# Altium footprint library 1554-MM.PcbLib: 16 footprints
Each footprint in its own frame and in the unit in brackets; x right, y up, seen from the top. Pads: shape width x height; smd on the part's side, far side on the other; paste and mask are expansions set on the pad; w line width, h text height; cw(c..) or ccw(c..) is an arc to the next point about the centre after c.
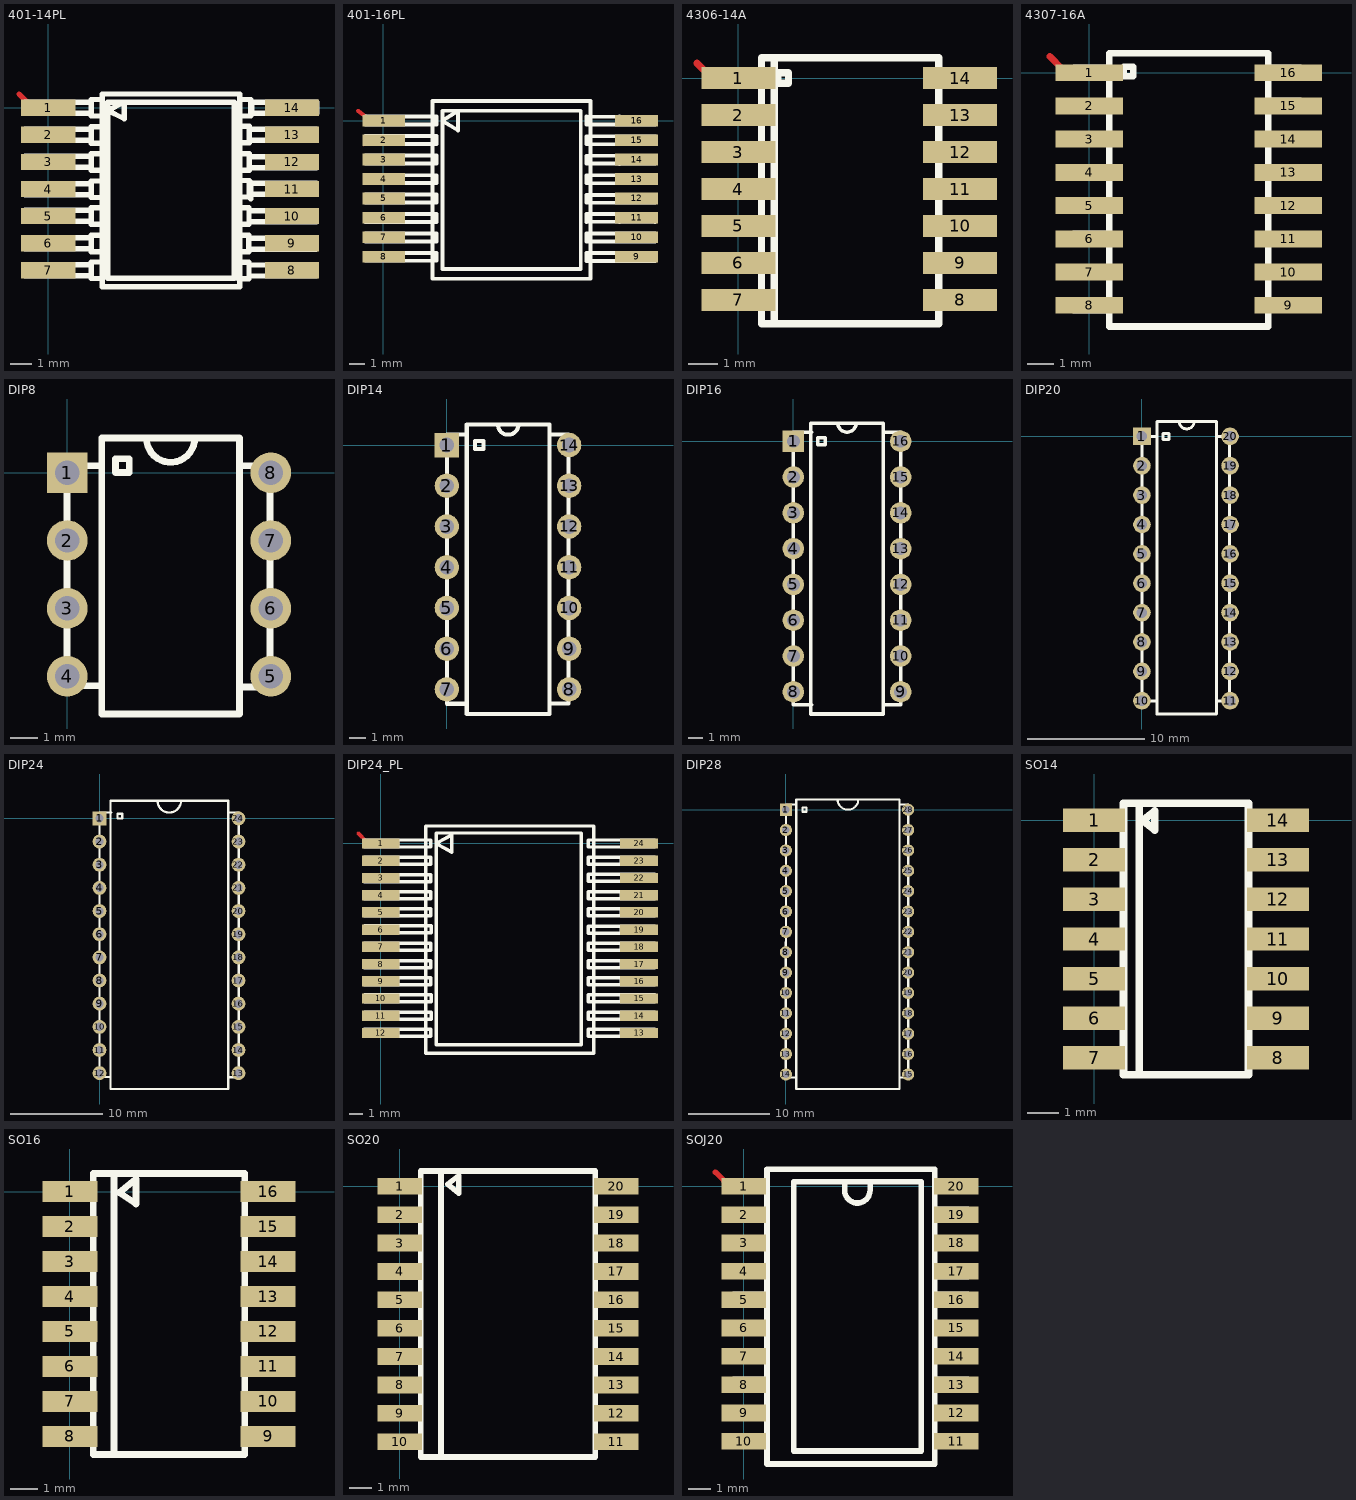
[diagram p0: the footprints below, top view; thin cyan lines are the x and y axes]

## 401-14PL [mm]
pads (14):
  rect 2.5x0.75 smd: 1(0,-0.01) 2(0,-1.26) 3(0,-2.51) 4(0,-3.76) 5(0,-5.01) 6(0,-6.26) 7(0,-7.51) 8(11.25,-7.51) 9(11.25,-6.26) 10(11.25,-5.01) 11(11.25,-3.76) 12(11.25,-2.51) 13(11.25,-1.26) 14(11.25,-0.01)
Top Layer:
  lines w0.25: -1.347,0.625 -0.839,0.117
Top Overlay:
  lines w0.25: 0.839,-7.764 0.839,-7.256 ; 0.839,-6.524 0.839,-6.016 ; 0.839,-5.254 0.839,-4.746 ; 0.839,-2.764 0.839,-2.256 ; 0.839,-1.514 0.839,-1.006 ; 0.839,-0.264 0.839,0.244 ; 0.849,-4.024 0.849,-3.516 ; 2.49,-7.891 1.982,-7.891 1.982,-7.129 2.49,-7.129 ; 2.49,-6.651 1.982,-6.651 1.982,-5.889 2.49,-5.889 ; 2.49,-5.381 1.982,-5.381 1.982,-4.619 2.49,-4.619 ; 2.49,-2.891 1.982,-2.891 1.982,-2.129 2.49,-2.129 ; 2.49,-1.641 1.982,-1.641 1.982,-0.879 2.49,-0.879 ; 2.49,-0.391 1.982,-0.391 1.982,0.371 2.49,0.371 ; 2.5,-4.151 1.992,-4.151 1.992,-3.389 2.5,-3.389 ; 8.75,-6.661 9.258,-6.661 ; 8.75,-5.899 9.258,-5.899 ; 8.76,-7.901 9.268,-7.901 9.268,-7.139 8.76,-7.139 ; 8.76,-5.391 9.268,-5.391 ; 8.76,-4.629 9.268,-4.629 ; 8.78,-4.131 9.288,-4.131 ; 8.78,-3.369 9.288,-3.369 ; 8.78,-2.901 9.288,-2.901 9.288,-2.139 8.78,-2.139 ; 8.78,-1.631 9.288,-1.631 ; 8.78,-0.869 9.288,-0.869 ; 8.84,-0.391 9.348,-0.391 9.348,0.371 8.84,0.371 ; 9.258,-6.534 9.258,-6.026 ; 9.268,-7.774 9.268,-7.266 ; 9.268,-5.264 9.268,-4.756 ; 9.288,-4.004 9.288,-3.496 ; 9.288,-2.774 9.288,-2.266 ; 9.288,-1.504 9.288,-0.996 ; 9.308,-6.534 12.356,-6.534 12.356,-6.026 9.308,-6.026 ; 9.318,-7.774 12.366,-7.774 12.366,-7.266 9.318,-7.266 ; 9.318,-5.264 12.366,-5.264 12.366,-4.756 9.318,-4.756 ; 9.338,-4.004 12.386,-4.004 12.386,-3.496 9.338,-3.496 ; 9.338,-2.774 12.386,-2.774 12.386,-2.266 9.338,-2.266 ; 9.338,-1.504 12.386,-1.504 12.386,-0.996 9.338,-0.996 ; 9.348,-4.201 9.348,-3.439 ; 9.348,-0.264 12.396,-0.264 12.396,0.244 9.348,0.244 ; 9.398,-0.264 9.398,0.244 ; 10.391,-0.264 10.391,0.244 ; 10.401,-6.534 10.401,-6.026 ; 10.411,-7.774 10.411,-7.266 ; 10.411,-5.264 10.411,-4.756 ; 10.431,-4.004 10.431,-3.496 ; 10.431,-2.774 10.431,-2.266 ; 10.431,-1.504 10.431,-0.996 ; -1.066,-7.764 -1.066,-7.256 1.982,-7.256 1.982,-7.764 -1.066,-7.764 ; -1.066,-6.524 -1.066,-6.016 1.982,-6.016 1.982,-6.524 -1.066,-6.524 ; -1.066,-5.254 -1.066,-4.746 1.982,-4.746 1.982,-5.254 -1.066,-5.254 ; -1.066,-2.764 -1.066,-2.256 1.982,-2.256 1.982,-2.764 -1.066,-2.764 ; -1.066,-1.514 1.982,-1.514 1.982,-1.006 -1.066,-1.006 -1.066,-1.514 ; -1.066,-0.264 1.982,-0.264 1.982,0.244 -1.066,0.244 -1.066,-0.264 ; -1.056,-4.024 1.992,-4.024 1.992,-3.516 -1.056,-3.516 -1.056,-4.024 ; 2.49,-8.265 8.84,-8.265 8.84,0.625 2.49,0.625 2.49,-8.265 ; 2.744,-7.884 8.586,-7.884 8.586,0.244 2.744,0.244 2.744,-7.884 ; 2.744,-0.137 3.506,0.244 3.506,-0.518 2.744,-0.137

## 401-16PL [mm]
pads (16):
  rect 2.75x0.75 smd: 1(0.04,0) 2(0.04,-1.25) 3(0.04,-2.5) 4(0.04,-3.75) 5(0.04,-5) 6(0.04,-6.25) 7(0.04,-7.5) 8(0.04,-8.75) 9(16.29,-8.75) 10(16.29,-7.5) 11(16.29,-6.25) 12(16.29,-5) 13(16.29,-3.75) 14(16.29,-2.5) 15(16.29,-1.25) 16(16.29,0)
Top Layer:
  region: -1.26,-1.631 -0.879,-0.869 -1.006,-0.996
  lines w0.25: -1.611,0.635 -1.103,0.254
Top Overlay:
  lines w0.25: 1.143,-9.004 1.143,-8.496 ; 1.143,-7.764 1.143,-7.256 ; 1.143,-6.504 1.143,-5.996 ; 1.143,-5.254 1.143,-4.746 ; 1.143,-4.014 1.143,-3.506 ; 1.143,-2.754 1.143,-2.246 ; 1.143,-0.254 1.143,0.254 ; 1.153,-1.504 1.153,-0.996 ; 13.07,-8.51 17.483,-8.506 17.483,-9.014 ; 13.07,-4.02 17.483,-4.014 17.483,-3.506 ; 13.081,-8.506 13.081,-9.014 17.48,-9.02 ; 13.081,-4.014 13.081,-3.506 17.48,-3.5 ; 15.197,-9.014 15.197,-8.506 ; 15.197,-7.764 15.197,-7.256 ; 15.197,-6.504 15.197,-5.996 ; 15.197,-5.274 15.197,-4.766 ; 15.197,-4.014 15.197,-3.506 ; 15.197,-2.774 15.197,-2.266 ; 15.197,-1.514 15.197,-1.006 ; 15.197,-0.254 15.197,0.254 ; 17.48,-7.25 13.081,-7.256 13.081,-7.764 17.49,-7.77 ; 17.48,-6.5 13.081,-6.504 13.081,-5.996 17.48,-6 ; 17.48,-5.27 13.081,-5.274 13.081,-4.766 17.48,-4.77 ; 17.48,-2.76 13.081,-2.764 13.081,-2.256 17.48,-2.26 ; 17.48,-0.26 13.081,-0.254 13.081,0.254 17.48,0.25 ; 17.483,-7.764 17.483,-7.256 ; 17.483,-6.504 17.483,-5.996 ; 17.483,-5.274 17.483,-4.766 ; 17.483,-2.764 17.483,-2.256 ; 17.483,-0.264 17.483,0.244 ; 17.49,-1.51 13.081,-1.514 13.081,-1.006 17.49,-1.01 ; 17.493,-1.514 17.493,-1.006 ; -1.143,-9.004 3.429,-9.004 3.429,-8.496 -1.143,-8.496 -1.143,-9.004 ; -1.143,-7.764 3.429,-7.764 3.429,-7.256 -1.143,-7.256 -1.143,-7.764 ; -1.143,-6.504 3.429,-6.504 3.429,-5.996 -1.143,-5.996 -1.143,-6.504 ; -1.143,-5.254 3.429,-5.254 3.429,-4.746 -1.143,-4.746 -1.143,-5.254 ; -1.143,-4.014 3.429,-4.014 3.429,-3.506 -1.143,-3.506 -1.143,-4.014 ; -1.143,-2.754 3.429,-2.754 3.429,-2.246 -1.143,-2.246 -1.143,-2.754 ; -1.143,-0.254 3.429,-0.254 3.429,0.254 -1.143,0.254 -1.143,-0.254 ; -1.133,-1.504 3.439,-1.504 3.439,-0.996 -1.133,-0.996 -1.133,-1.504 ; 3.175,-10.16 13.335,-10.16 13.335,1.27 3.175,1.27 3.175,-10.16 ; 3.81,-9.525 12.7,-9.525 12.7,0.635 3.81,0.635 3.81,-9.525 ; 3.81,0 4.826,0.635 4.826,-0.635 3.81,0

## 4306-14A [mm]
pads (14):
  rect 2.5x0.75 smd: 1(0,0) 2(0,-1.25) 3(0,-2.5) 4(0,-3.75) 5(0,-5) 6(0,-6.25) 7(0,-7.5) 8(7.5,-7.5) 9(7.5,-6.25) 10(7.5,-5) 11(7.5,-3.75) 12(7.5,-2.5) 13(7.5,-1.25) 14(7.5,0)
Top Layer:
  lines w0.25: -1.397,0.508 -0.889,0
Top Overlay:
  lines w0.25: 0.784,-7.688 -0.537,-7.688 -0.537,-7.332 0.784,-7.332 ; 0.784,-6.438 -0.537,-6.438 -0.537,-6.082 0.784,-6.082 ; 0.784,-5.178 -0.537,-5.178 -0.537,-4.822 0.784,-4.822 ; 0.784,-3.928 -0.537,-3.928 -0.537,-3.572 0.784,-3.572 ; 0.784,-2.678 -0.537,-2.678 -0.537,-2.322 0.784,-2.322 ; 0.784,-1.428 -0.537,-1.428 -0.537,-1.072 0.784,-1.072 ; 0.784,-0.178 -0.537,-0.178 -0.537,0.178 0.784,0.178 ; 1.21,-8.29 1.215,0.66 ; 6.773,-7.678 8.093,-7.678 8.093,-7.322 6.773,-7.322 ; 6.773,-5.178 8.093,-5.178 8.093,-4.822 6.773,-4.822 ; 6.773,-3.928 8.093,-3.928 8.093,-3.572 6.773,-3.572 ; 6.773,-2.688 8.093,-2.688 8.093,-2.332 6.773,-2.332 ; 6.773,-1.428 8.093,-1.428 8.093,-1.072 6.773,-1.072 ; 6.773,-0.178 8.093,-0.178 8.093,0.178 6.773,0.178 ; 6.783,-6.428 8.103,-6.428 8.103,-6.072 6.783,-6.072 ; 0.784,-8.306 6.778,-8.306 6.778,0.686 0.784,0.686 0.784,-8.306 ; 1.342,-0.178 1.342,0.178 1.698,0.178 1.698,-0.178 1.342,-0.178

## 4307-16A [mm]
pads (16):
  rect 2.54x0.635 smd: 1(0,0) 2(0,-1.25) 3(0,-2.5) 4(0,-3.75) 5(0,-5) 6(0,-6.25) 7(0,-7.5) 8(0,-8.75) 9(7.5,-8.75) 10(7.5,-7.5) 11(7.5,-6.25) 12(7.5,-5) 13(7.5,-3.75) 14(7.5,-2.5) 15(7.5,-1.25) 16(7.5,0)
Top Layer:
  lines w0.25: -1.473,0.61 -0.991,0.127
Top Overlay:
  lines w0.25: 0.744,-8.928 -0.577,-8.928 -0.577,-8.572 0.744,-8.572 ; 0.754,-7.678 -0.567,-7.678 -0.567,-7.322 0.754,-7.322 ; 0.754,-6.418 -0.567,-6.418 -0.567,-6.062 0.754,-6.062 ; 0.754,-5.178 -0.567,-5.178 -0.567,-4.822 0.754,-4.822 ; 0.754,-3.928 -0.567,-3.928 -0.567,-3.572 0.754,-3.572 ; 0.754,-2.678 -0.567,-2.678 -0.567,-2.322 0.754,-2.322 ; 0.754,-1.428 -0.567,-1.428 -0.567,-1.072 0.754,-1.072 ; 0.754,-0.178 -0.567,-0.178 -0.567,0.178 0.754,0.178 ; 6.748,-8.918 7.942,-8.918 7.942,-8.562 6.748,-8.562 ; 6.748,-7.678 7.942,-7.678 7.942,-7.322 6.748,-7.322 ; 6.748,-6.438 7.942,-6.438 7.942,-6.082 6.748,-6.082 ; 6.748,-5.168 7.942,-5.168 7.942,-4.812 6.748,-4.812 ; 6.748,-3.918 7.942,-3.918 7.942,-3.562 6.748,-3.562 ; 6.748,-2.668 7.942,-2.668 7.942,-2.312 6.748,-2.312 ; 6.748,-1.418 7.942,-1.418 7.942,-1.062 6.748,-1.062 ; 6.748,-0.178 7.942,-0.178 7.942,0.178 6.748,0.178 ; 0.754,-9.551 6.748,-9.551 6.748,0.736 0.754,0.736 0.754,-9.551 ; 1.312,-0.128 1.312,0.228 1.668,0.228 1.668,-0.128 1.312,-0.128

## DIP8 [mm]
pads (8):
  rect 1.5x1.5 hole 0.9: 1(0,0)
  round 1.5 hole 0.9: 2(0,-2.5) 3(0,-5) 4(0,-7.5) 5(7.5,-7.5) 6(7.5,-5) 7(7.5,-2.5) 8(7.5,0)
Top Overlay:
  lines w0.25: -0.004,-7.874 -0.004,0.254 ; 0,-7.85 1.25,-7.85 ; 0,0.25 1.27,0.254 ; 2.921,1.272 ccw(c3.81,1.27) 4.699,1.27 ; 6.35,-7.9 7.45,-7.9 ; 6.35,0.254 7.45,0.25 ; 7.474,-7.874 7.474,0.254 ; 1.27,-8.89 6.35,-8.89 6.35,1.27 1.27,1.27 1.27,-8.89 ; 1.778,0 2.286,0 2.286,0.508 1.778,0.508 1.778,0

## DIP14 [mm]
pads (14):
  rect 1.5x1.5 hole 0.9: 1(0,0)
  round 1.5 hole 0.9: 2(0,-2.5) 3(0,-5) 4(0,-7.5) 5(0,-10) 6(0,-12.5) 7(0,-15) 8(7.5,-15) 9(7.5,-12.5) 10(7.5,-10) 11(7.5,-7.5) 12(7.5,-5) 13(7.5,-2.5) 14(7.5,0)
Top Overlay:
  lines w0.25: 0,-15.88 1.22,-15.88 ; 0,-15.875 0,0.635 ; 0,0.64 1.22,0.64 ; 3.125,1.271 ccw(c3.76,1.27) 4.395,1.27 ; 6.31,-15.87 7.47,-15.87 ; 6.35,0.635 7.46,0.64 ; 7.47,-15.825 7.47,0.64 ; 1.22,-16.51 6.3,-16.51 6.3,1.27 1.22,1.27 1.22,-16.51 ; 1.728,-0.254 1.728,0.254 2.236,0.254 2.236,-0.254 1.728,-0.254

## DIP16 [mm]
pads (16):
  rect 1.5x1.5 hole 0.9: 1(0,0)
  round 1.5 hole 0.9: 2(0,-2.5) 3(0,-5) 4(0,-7.5) 5(0,-10) 6(0,-12.5) 7(0,-15) 8(0,-17.5) 9(7.5,-17.5) 10(7.5,-15) 11(7.5,-12.5) 12(7.5,-10) 13(7.5,-7.5) 14(7.5,-5) 15(7.5,-2.5) 16(7.5,0)
Top Overlay:
  lines w0.25: 1.27,-18.415 0,-18.415 0,0.635 1.27,0.635 ; 3.115,1.271 ccw(c3.75,1.27) 4.385,1.27 ; 6.31,-18.41 7.5,-18.41 ; 6.35,0.635 7.5,0.64 ; 7.5,-18.415 7.5,0.635 ; 1.21,-19.05 6.29,-19.05 6.29,1.27 1.21,1.27 1.21,-19.05 ; 1.718,-0.254 1.718,0.254 2.226,0.254 2.226,-0.254 1.718,-0.254

## DIP20 [mm]
pads (20):
  rect 1.5x1.5 hole 0.9: 1(0,0)
  round 1.5 hole 0.9: 2(0,-2.5) 3(0,-5) 4(0,-7.5) 5(0,-10) 6(0,-12.5) 7(0,-15) 8(0,-17.5) 9(0,-20) 10(0,-22.5) 11(7.5,-22.5) 12(7.5,-20) 13(7.5,-17.5) 14(7.5,-15) 15(7.5,-12.5) 16(7.5,-10) 17(7.5,-7.5) 18(7.5,-5) 19(7.5,-2.5) 20(7.5,0)
Top Overlay:
  lines w0.25: -0.01,-22.53 1.26,-22.53 ; 0,-22.51 0,0 1.27,0 ; 1.26,-23.63 6.34,-23.63 ; 1.27,-23.61 1.27,1.27 6.35,1.27 6.34,-23.61 ; 3.175,1.271 ccw(c3.81,1.27) 4.445,1.27 ; 6.34,-22.53 7.47,-22.53 ; 6.35,0 7.62,0 ; 7.46,-22.51 7.47,0.04 ; 1.778,-0.254 2.286,-0.254 2.286,0.254 1.778,0.254 1.778,-0.254

## DIP24 [mm]
pads (24):
  rect 1.5x1.5 hole 0.9: 1(0,0)
  round 1.5 hole 0.9: 2(0,-2.5) 3(0,-5) 4(0,-7.5) 5(0,-10) 6(0,-12.5) 7(0,-15) 8(0,-17.5) 9(0,-20) 10(0,-22.5) 11(0,-25) 12(0,-27.5) 13(15,-27.5) 14(15,-25) 15(15,-22.5) 16(15,-20) 17(15,-17.5) 18(15,-15) 19(15,-12.5) 20(15,-10) 21(15,-7.5) 22(15,-5) 23(15,-2.5) 24(15,0)
Top Overlay:
  lines w0.25: -0.02,-27.915 1.17,-27.92 ; 0,-27.92 0,0.635 1.27,0.635 ; 1.18,1.778 1.18,1.27 1.18,-29.21 13.88,-29.21 13.88,1.778 ; 1.18,1.905 13.88,1.905 13.88,1.27 ; 6.26,1.907 ccw(c7.53,1.905) 8.8,1.905 ; 13.97,-27.94 15.02,-27.94 15.02,0.635 ; 13.97,0.635 15.01,0.63 ; 1.942,0 2.45,0 2.45,0.508 1.942,0.508 1.942,0

## DIP24_PL [mm]
pads (24):
  rect 2.75x0.75 smd: 1(0,0) 2(0,-1.25) 3(0,-2.5) 4(0,-3.75) 5(0,-5) 6(0,-6.25) 7(0,-7.5) 8(0,-8.75) 9(0,-10) 10(0,-11.25) 11(0,-12.5) 12(0,-13.75) 13(18.75,-13.75) 14(18.75,-12.5) 15(18.75,-11.25) 16(18.75,-10) 17(18.75,-8.75) 18(18.75,-7.5) 19(18.75,-6.25) 20(18.75,-5) 21(18.75,-3.75) 22(18.75,-2.5) 23(18.75,-1.25) 24(18.75,0)
Top Layer:
  lines w0.25: -1.651,0.762 -1.016,0.127
Top Overlay:
  lines w0.25: 1.227,-14.004 1.227,-13.496 ; 1.227,-10.254 1.227,-9.746 ; 1.227,-9.004 1.227,-8.496 ; 1.227,-7.744 1.227,-7.236 ; 1.227,-5.254 1.227,-4.746 ; 1.227,-4.004 1.227,-3.496 ; 1.227,-2.764 1.227,-2.256 ; 1.227,-1.504 1.227,-0.996 ; 1.227,-0.254 1.227,0.254 ; 1.237,-12.764 1.237,-12.256 ; 1.237,-11.494 1.237,-10.986 ; 1.237,-6.494 1.237,-5.986 ; 17.463,-13.994 17.463,-13.486 ; 17.463,-12.754 17.463,-12.246 ; 17.463,-11.494 17.463,-10.986 ; 17.463,-7.764 17.463,-7.256 ; 17.473,-10.264 17.473,-9.756 ; 17.473,-9.004 17.473,-8.496 ; 17.473,-6.504 17.473,-5.996 ; 17.473,-5.254 17.473,-4.746 ; 17.473,-4.004 17.473,-3.496 ; 17.473,-1.514 17.473,-1.006 ; 17.483,-2.754 17.483,-2.246 ; 17.483,-0.254 17.483,0.254 ; -1.186,-14.004 3.64,-14.004 3.64,-13.496 -1.186,-13.496 -1.186,-14.004 ; -1.186,-10.254 3.64,-10.254 3.64,-9.746 -1.186,-9.746 -1.186,-10.254 ; -1.186,-9.004 3.64,-9.004 3.64,-8.496 -1.186,-8.496 -1.186,-9.004 ; -1.186,-7.744 3.64,-7.744 3.64,-7.236 -1.186,-7.236 -1.186,-7.744 ; -1.186,-5.254 3.64,-5.254 3.64,-4.746 -1.186,-4.746 -1.186,-5.254 ; -1.186,-4.004 3.64,-4.004 3.64,-3.496 -1.186,-3.496 -1.186,-4.004 ; -1.186,-2.764 3.64,-2.764 3.64,-2.256 -1.186,-2.256 -1.186,-2.764 ; -1.186,-1.504 3.64,-1.504 3.64,-0.996 -1.186,-0.996 -1.186,-1.504 ; -1.186,-0.254 3.64,-0.254 3.64,0.254 -1.186,0.254 -1.186,-0.254 ; -1.176,-12.764 3.65,-12.764 3.65,-12.256 -1.176,-12.256 -1.176,-12.764 ; -1.176,-11.494 3.65,-11.494 3.65,-10.986 -1.176,-10.986 -1.176,-11.494 ; -1.176,-6.494 3.65,-6.494 3.65,-5.986 -1.176,-5.986 -1.176,-6.494 ; 3.259,-15.24 15.451,-15.24 15.451,1.27 3.259,1.27 3.259,-15.24 ; 4.021,-14.605 14.562,-14.605 14.562,0.762 4.021,0.762 4.021,-14.605 ; 4.021,0 5.164,-0.635 5.164,0.635 4.021,0 ; 15.05,-13.994 19.876,-13.994 19.876,-13.486 15.05,-13.486 15.05,-13.994 ; 15.05,-12.754 19.876,-12.754 19.876,-12.246 15.05,-12.246 15.05,-12.754 ; 15.05,-11.494 19.876,-11.494 19.876,-10.986 15.05,-10.986 15.05,-11.494 ; 15.05,-7.764 19.876,-7.764 19.876,-7.256 15.05,-7.256 15.05,-7.764 ; 15.06,-10.264 19.886,-10.264 19.886,-9.756 15.06,-9.756 15.06,-10.264 ; 15.06,-9.004 19.886,-9.004 19.886,-8.496 15.06,-8.496 15.06,-9.004 ; 15.06,-6.504 19.886,-6.504 19.886,-5.996 15.06,-5.996 15.06,-6.504 ; 15.06,-5.254 19.886,-5.254 19.886,-4.746 15.06,-4.746 15.06,-5.254 ; 15.06,-4.004 19.886,-4.004 19.886,-3.496 15.06,-3.496 15.06,-4.004 ; 15.06,-1.514 19.886,-1.514 19.886,-1.006 15.06,-1.006 15.06,-1.514 ; 15.07,-2.754 19.896,-2.754 19.896,-2.246 15.07,-2.246 15.07,-2.754 ; 15.07,-0.254 19.896,-0.254 19.896,0.254 15.07,0.254 15.07,-0.254

## DIP28 [mm]
pads (28):
  rect 1.5x1.5 hole 0.9: 1(0,0)
  round 1.5 hole 0.9: 2(0,-2.5) 3(0,-5) 4(0,-7.5) 5(0,-10) 6(0,-12.5) 7(0,-15) 8(0,-17.5) 9(0,-20) 10(0,-22.5) 11(0,-25) 12(0,-27.5) 13(0,-30) 14(0,-32.5) 15(15,-32.5) 16(15,-30) 17(15,-27.5) 18(15,-25) 19(15,-22.5) 20(15,-20) 21(15,-17.5) 22(15,-15) 23(15,-12.5) 24(15,-10) 25(15,-7.5) 26(15,-5) 27(15,-2.5) 28(15,0)
Top Overlay:
  lines w0.25: -0.02,-32.88 0,0.635 1.27,0.635 ; -0.01,-32.905 1.26,-32.905 ; 6.35,1.272 ccw(c7.62,1.27) 8.89,1.27 ; 13.97,-32.895 15.01,-32.9 ; 13.97,0.635 15.01,0.64 ; 15.02,-32.88 15.02,0.635 ; 1.27,-34.29 13.97,-34.29 13.97,1.27 1.27,1.27 1.27,-34.29 ; 2.032,-0.254 2.032,0.254 2.54,0.254 2.54,-0.254 2.032,-0.254

## PCBComponent_1 [mm]

## SO14 [mm]
pads (14):
  rect 2x0.75 smd: 1(0,0) 2(0,-1.27) 3(0,-2.54) 4(0,-3.81) 5(0,-5.08) 6(0,-6.35) 7(0,-7.62) 8(5.9,-7.62) 9(5.9,-6.35) 10(5.9,-5.08) 11(5.9,-3.81) 12(5.9,-2.54) 13(5.9,-1.27) 14(5.9,0)
Top Overlay:
  lines w0.25: 1.45,-8.11 1.45,0.49 ; 0.95,-8.16 4.95,-8.16 4.95,0.54 0.95,0.54 0.95,-8.16 ; 1.55,-0.01 1.95,-0.31 1.95,0.29 1.55,-0.01

## SO16 [mm]
pads (16):
  rect 2x0.75 smd: 1(0,0) 2(0,-1.27) 3(0,-2.54) 4(0,-3.81) 5(0,-5.08) 6(0,-6.35) 7(0,-7.62) 8(0,-8.89) 9(7.2,-8.89) 10(7.2,-7.62) 11(7.2,-6.35) 12(7.2,-5.08) 13(7.2,-3.81) 14(7.2,-2.54) 15(7.2,-1.27) 16(7.2,0)
Top Overlay:
  lines w0.25: 1.6,-9.445 1.6,0.655 ; 0.85,-9.545 6.35,-9.545 6.35,0.655 0.85,0.655 0.85,-9.545 ; 1.8,-0.045 2.4,-0.445 2.4,0.455 1.8,-0.045

## SO20 [mm]
pads (20):
  rect 2x0.75 smd: 1(0,0) 2(0,-1.27) 3(0,-2.54) 4(0,-3.81) 5(0,-5.08) 6(0,-6.35) 7(0,-7.62) 8(0,-8.89) 9(0,-10.16) 10(0,-11.43) 11(9.7,-11.43) 12(9.7,-10.16) 13(9.7,-8.89) 14(9.7,-7.62) 15(9.7,-6.35) 16(9.7,-5.08) 17(9.7,-3.81) 18(9.7,-2.54) 19(9.7,-1.27) 20(9.7,0)
Top Overlay:
  lines w0.25: 1.85,-12.015 1.85,0.685 ; 0.95,-12.115 8.75,-12.115 8.75,0.685 0.95,0.685 0.95,-12.115 ; 2.15,0.085 2.65,-0.315 2.65,0.485 2.15,0.085

## SOJ20 [mm]
pads (20):
  rect 2x0.75 smd: 1(0,0) 2(0,-1.27) 3(0,-2.54) 4(0,-3.81) 5(0,-5.08) 6(0,-6.35) 7(0,-7.62) 8(0,-8.89) 9(0,-10.16) 10(0,-11.43) 11(9.525,-11.43) 12(9.525,-10.16) 13(9.525,-8.89) 14(9.525,-7.62) 15(9.525,-6.35) 16(9.525,-5.08) 17(9.525,-3.81) 18(9.525,-2.54) 19(9.525,-1.27) 20(9.525,0)
Top Layer:
  lines w0.25: -1.27,0.635 -0.889,0.254
Top Overlay:
  lines w0.25: 0.386,-5.3 0.386,-4.843 ; 0.396,-10.382 0.396,-9.925 ; 0.396,-9.106 0.396,-8.649 ; 0.396,-7.841 0.396,-7.384 ; 0.396,-4.025 0.396,-3.568 ; 0.396,-2.779 0.396,-2.322 ; 0.406,-11.647 0.406,-11.19 ; 0.406,-6.576 0.406,-6.118 ; 0.406,-1.504 0.406,-1.047 ; 0.406,-0.229 0.406,0.229 ; 1.021,-5.3 -0.452,-5.3 -0.452,-4.843 1.021,-4.843 ; 1.031,-10.382 -0.442,-10.382 -0.442,-9.925 1.031,-9.925 ; 1.031,-9.106 -0.442,-9.106 -0.442,-8.649 1.031,-8.649 ; 1.031,-7.841 -0.442,-7.841 -0.442,-7.384 1.031,-7.384 ; 1.031,-4.025 -0.442,-4.025 -0.442,-3.568 1.031,-3.568 ; 1.031,-2.779 -0.442,-2.779 -0.442,-2.322 1.031,-2.322 ; 1.041,-11.647 -0.432,-11.647 -0.432,-11.19 1.041,-11.19 ; 1.041,-6.576 -0.432,-6.576 -0.432,-6.118 1.041,-6.118 ; 1.041,-1.504 -0.432,-1.504 -0.432,-1.047 1.041,-1.047 ; 1.041,-0.229 -0.432,-0.229 -0.432,0.229 1.041,0.229 ; 4.521,0.203 4.521,-0.178 ccw(c5.093,-0.178) 5.664,-0.178 5.664,0.203 ; 8.56,-11.647 10.033,-11.647 10.033,-11.19 8.56,-11.19 ; 8.56,-10.382 10.033,-10.382 10.033,-9.925 8.56,-9.925 ; 8.56,-7.831 10.033,-7.831 10.033,-7.374 8.56,-7.374 ; 8.56,-6.576 10.033,-6.576 10.033,-6.118 8.56,-6.118 ; 8.56,-5.3 10.033,-5.3 10.033,-4.843 8.56,-4.843 ; 8.56,-4.045 10.033,-4.045 10.033,-3.588 8.56,-3.588 ; 8.56,-1.494 10.033,-1.494 10.033,-1.037 8.56,-1.037 ; 8.56,-0.209 10.033,-0.209 10.033,0.249 8.56,0.249 ; 8.57,-9.106 10.043,-9.106 10.043,-8.649 8.57,-8.649 ; 8.57,-2.779 10.043,-2.779 10.043,-2.322 8.57,-2.322 ; 9.195,-11.647 9.195,-11.19 ; 9.195,-10.382 9.195,-9.925 ; 9.195,-7.831 9.195,-7.374 ; 9.195,-6.576 9.195,-6.118 ; 9.195,-5.3 9.195,-4.843 ; 9.195,-4.045 9.195,-3.588 ; 9.195,-1.494 9.195,-1.037 ; 9.195,-0.209 9.195,0.249 ; 9.205,-9.106 9.205,-8.649 ; 9.205,-2.779 9.205,-2.322 ; 1.041,-12.446 1.041,0.762 8.56,0.762 8.56,-12.446 1.041,-12.446 ; 2.235,-11.862 7.95,-11.862 7.95,0.203 2.235,0.203 2.235,-11.862